# Altium integrated library IC.IntLib: 19 symbols
Pins are listed as number, name and electrical type; pins without a type are passive.

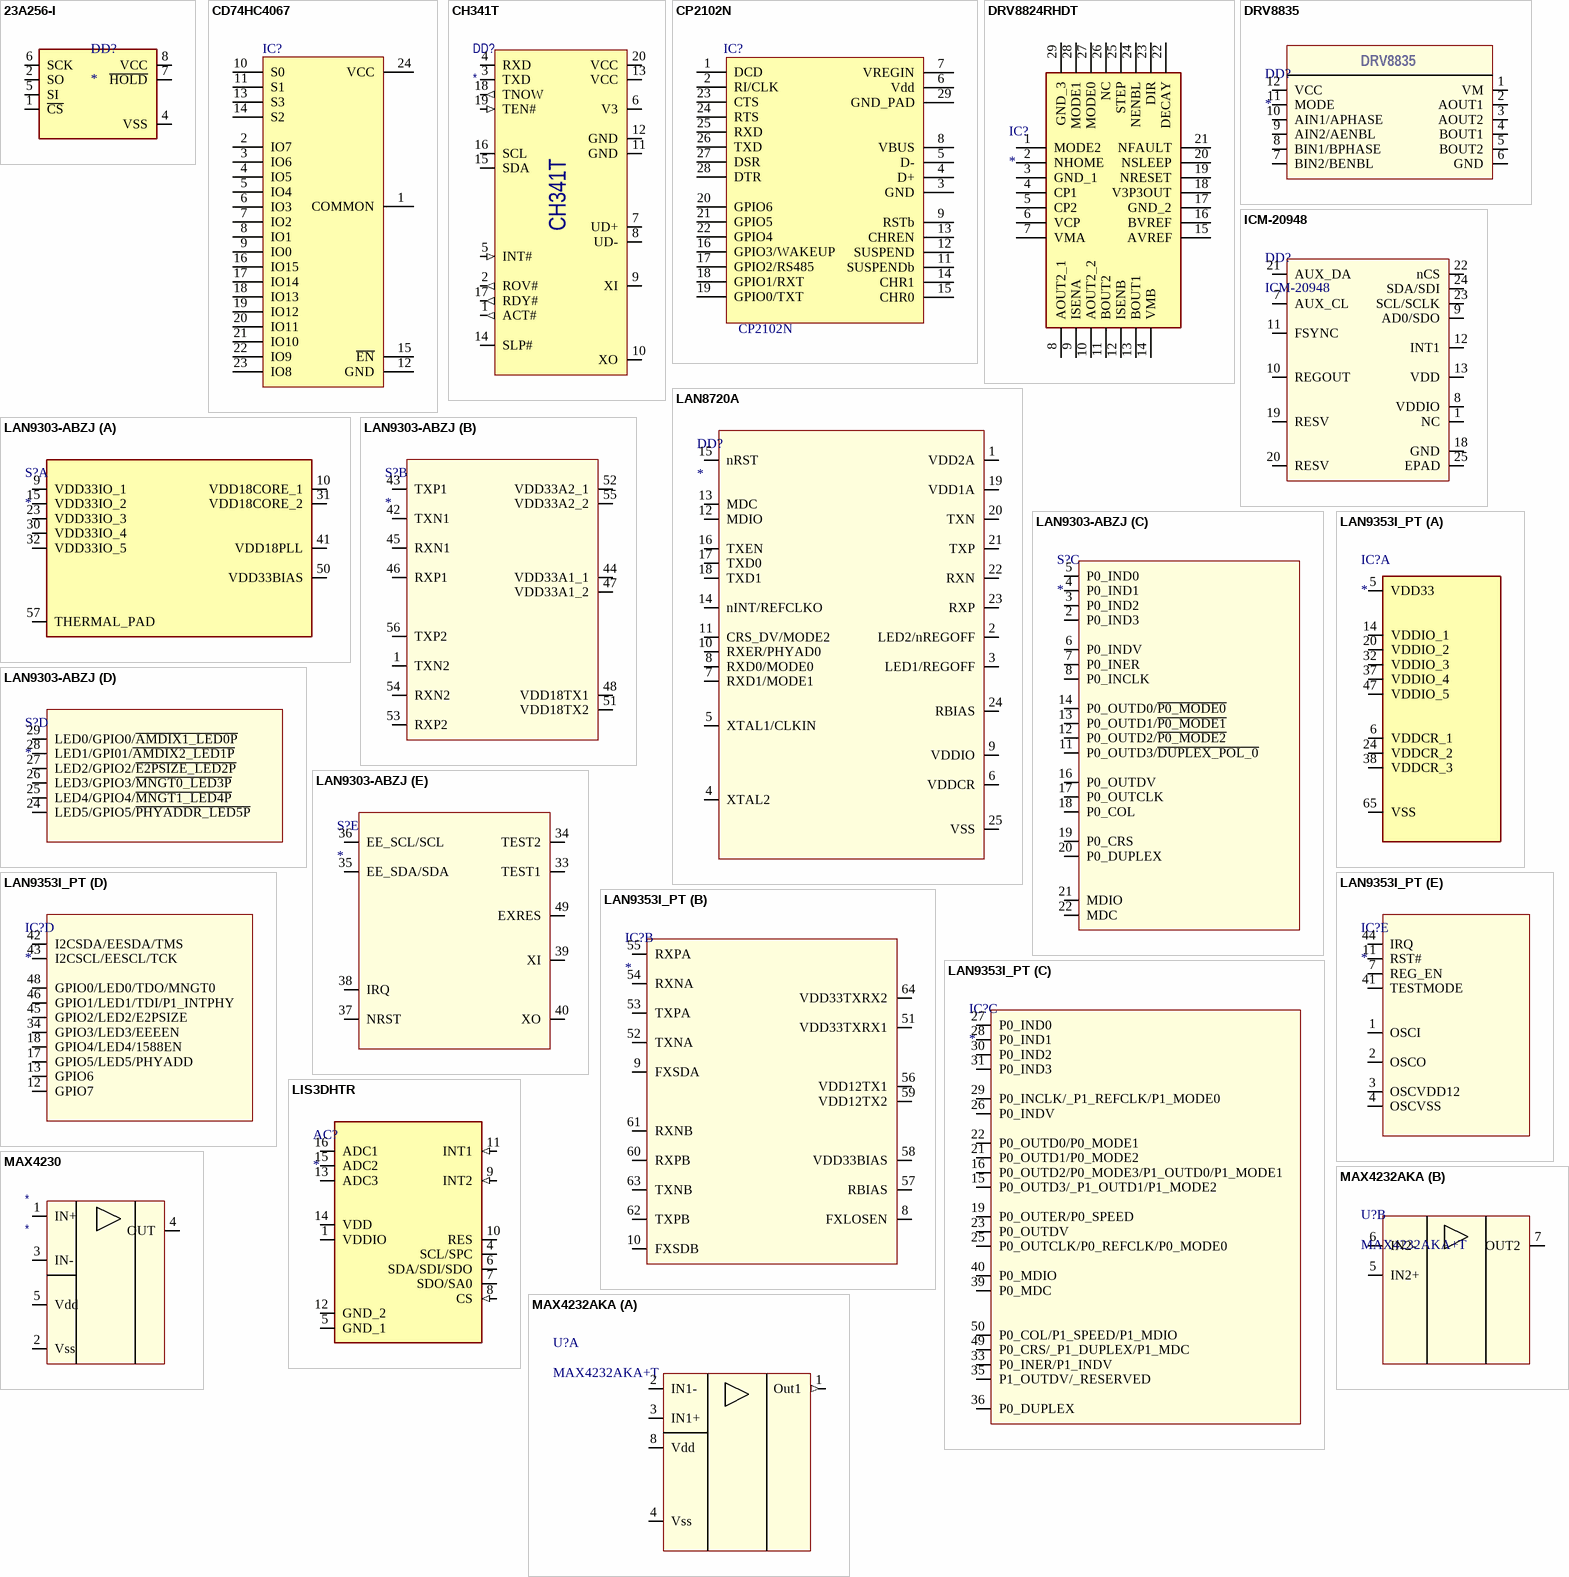
[diagram p0: symbols 23A256-I to MAX4232AKA]

## 23A256-I
designator DD?
Integrated Circuit; Manufacturer_Name: Microchip; Manufacturer_Part_Number: 23A256-I/SN; Datasheet Link: http://ww1.microchip.com/downloads/en/DeviceDoc/22100F.pdf; Height: 1.75mm; Mouser Part Number: 579-23A256-I/SN; Mouser Price/Stock: https://www.mouser.com/Search/Refine.aspx?Keyword=579-23A256-I%2FSN; Arrow Part Number: 23A256-I/SN; Arrow Price/Stock: https://www.arrow.com/en/products/23a256-isn/microchip-technology
footprint SOIC127P600X175-8N
footprint TSOP65P640X120-8N (TSOP, 8-Leads, Body 3,00x4,40mm, Pitch 0,65mm, IPC Medium Density)
pins: 1 ~{CS}, 2 SO, 4 VSS (power), 5 SI, 6 SCK, 7 ~{HOLD}, 8 VCC (power)

## CD74HC4067
designator IC?
footprint SOIC127P1030X265-24N (SOIC, 24-Leads, Body 15,40x7,40mm, Pitch 1,27mm, IPC Medium Density)
footprint SOP65P780X200-24N (SOP, 24-Leads, Body 8,20x5,30mm, Pitch 0,65mm, IPC Medium Density)
pins: 1 COMMON, 2 IO7, 3 IO6, 4 IO5, 5 IO4, 6 IO3, 7 IO2, 8 IO1, 9 IO0, 10 S0, 11 S1, 12 GND, 13 S3, 14 S2, 15 ~{EN}, 16 IO15, 17 IO14, 18 IO13, 19 IO12, 20 IO11, 21 IO10, 22 IO9, 23 IO8, 24 VCC

## CH341T
designator DD?
USB bus convert UART/I2C; Model: *; Manufacturer: *; HelpURL: *; Package: *; Value: *
footprint SSOP-20 209mil (SOP, 20-Leads, Body 7,20x5,30mm, Pitch 0,65mm, IPC Medium Density)
pins: 1 ACT# (out), 2 ROV# (out), 3 TXD, 4 RXD, 5 INT# (in), 6 V3 (power), 7 UD+, 8 UD-, 9 XI, 10 XO, 11 GND (power), 12 GND (power), 13 VCC (power), 14 SLP# (hiz), 15 SDA (oc), 16 SCL (oc), 17 RDY# (out), 18 TNOW (out), 19 TEN# (in), 20 VCC (power)

## CP2102N
designator IC?
USB-to-UART brige
footprint QFN28-5X5 (QFN, 28-Leads, Body 5,00x5,00mm, Pitch 0,50mm, Thermal Pad 3,03x3,13mm, IPC Medium Density)
pins: 1 DCD, 2 RI/CLK, 3 GND, 4 D+, 5 D-, 6 Vdd, 7 VREGIN, 8 VBUS, 9 RSTb, 11 SUSPENDb, 12 SUSPEND, 13 CHREN, 14 CHR1, 15 CHR0, 16 GPIO3/WAKEUP, 17 GPIO2/RS485, 18 GPIO1/RXT, 19 GPIO0/TXT, 20 GPIO6, 21 GPIO5, 22 GPIO4, 23 CTS, 24 RTS, 25 RXD, 26 TXD, 27 DSR, 28 DTR, 29 GND_PAD

## DRV8824RHDT
designator IC?
Integrated Circuit; Manufacturer_Name: Texas Instruments; Manufacturer_Part_Number: DRV8824RHDT; Datasheet Link: http://www.ti.com/lit/gpn/drv8824; Height: 1mm; Mouser Part Number: 595-DRV8824RHDT; Mouser Price/Stock: https://www.mouser.co.uk/ProductDetail/Texas-Instruments/DRV8824RHDT?qs=biyDIajrTn4uN60jUrCUCg%3D%3D; Arrow Part Number: DRV8824RHDT; Arrow Price/Stock: https://www.arrow.com/en/products/drv8824rhdt/texas-instruments
footprint QFN50P500X500X100-29N-D
pins: 1 MODE2, 2 NHOME, 3 GND_1, 4 CP1, 5 CP2, 6 VCP, 7 VMA, 8 AOUT2_1, 9 ISENA, 10 AOUT2_2, 11 BOUT2, 12 ISENB, 13 BOUT1, 14 VMB, 15 AVREF, 16 BVREF, 17 GND_2, 18 V3P3OUT, 19 NRESET, 20 NSLEEP, 21 NFAULT, 22 DECAY, 23 DIR, 24 NENBL, 25 STEP, 26 NC, 27 MODE0, 28 MODE1, 29 GND_3

## DRV8835
designator DD?
Dual-H-Bridge Motor Driver
footprint SON50P200X80_HS-13N (SON, 12-Leads, Body 3,00x2,00mm, Pitch 0,50mm, Thermal Pad 2,00x0,79mm, IPC Medium Density)
pins: 1 VM, 2 AOUT1, 3 AOUT2, 4 BOUT1, 5 BOUT2, 6 GND, 7 BIN2/BENBL, 8 BIN1/BPHASE, 9 AIN2/AENBL, 10 AIN1/APHASE, 11 MODE, 12 VCC

## ICM-20948
designator DD?
9-Axis MEMS MotionTracking Device; Model: ICM-20948; Manufacturer: *; HelpURL: *; Package: *; Value: *
footprint QFN40P300X300X105_HS-25N (QFN, 24-Leads, Body 3,00x3,00mm, Pitch 0,40mm, Thermal Pad 1,70x1,54mm, IPC Medium Density)
pins: 1 NC, 7 AUX_CL, 8 VDDIO, 9 AD0/SDO, 10 REGOUT, 11 FSYNC, 12 INT1, 13 VDD, 18 GND, 19 RESV, 20 RESV, 21 AUX_DA, 22 nCS, 23 SCL/SCLK, 24 SDA/SDI, 25 EPAD

## LAN8720A
designator DD?
RMII 10/100 Ethernet Transceiver; Model: *; Manufacturer: *; HelpURL: *; Package: *; Value: *
footprint QFN24-6X6_MC_MCH
pins: 1 VDD2A, 2 LED2/nREGOFF, 3 LED1/REGOFF, 4 XTAL2, 5 XTAL1/CLKIN, 6 VDDCR, 7 RXD1/MODE1, 8 RXD0/MODE0, 9 VDDIO, 10 RXER/PHYAD0, 11 CRS_DV/MODE2, 12 MDIO, 13 MDC, 14 nINT/REFCLKO, 15 nRST, 16 TXEN, 17 TXD0, 18 TXD1, 19 VDD1A, 20 TXN, 21 TXP, 22 RXN, 23 RXP, 24 RBIAS, 25 VSS

## LAN9303-ABZJ
designator S?
Switch; Manufacturer_Name: Microchip; Manufacturer_Part_Number: LAN9303-ABZJ; Datasheet Link: http://ww1.microchip.com/downloads/en/DeviceDoc/9303.pdf; Height: 1mm; Mouser Part Number: 886-LAN9303-ABZJ; Mouser Price/Stock: https://www.mouser.co.uk/ProductDetail/Microchip-Technology/LAN9303-ABZJ?qs=pA5MXup5wxF9z5SkD3kyrQ%3D%3D; Arrow Part Number: LAN9303-ABZJ; Arrow Price/Stock: https://www.arrow.com/en/products/lan9303-abzj/microchip-technology
footprint QFN50P800X800X100-57N-D
part A pins: 9 VDD33IO_1, 10 VDD18CORE_1, 15 VDD33IO_2, 23 VDD33IO_3, 30 VDD33IO_4, 31 VDD18CORE_2, 32 VDD33IO_5, 41 VDD18PLL, 50 VDD33BIAS, 57 THERMAL_PAD
part B pins: 1 TXN2, 42 TXN1, 43 TXP1, 44 VDD33A1_1, 45 RXN1, 46 RXP1, 47 VDD33A1_2, 48 VDD18TX1, 51 VDD18TX2, 52 VDD33A2_1, 53 RXP2, 54 RXN2, 55 VDD33A2_2, 56 TXP2
part C pins: 2 P0_IND3, 3 P0_IND2, 4 P0_IND1, 5 P0_IND0, 6 P0_INDV, 7 P0_INER, 8 P0_INCLK, 11 P0_OUTD3/~{DUPLEX_POL_0}, 12 P0_OUTD2/~{P0_MODE2}, 13 P0_OUTD1/~{P0_MODE1}, 14 P0_OUTD0/~{P0_MODE0}, 16 P0_OUTDV, 17 P0_OUTCLK, 18 P0_COL, 19 P0_CRS, 20 P0_DUPLEX, 21 MDIO, 22 MDC
part D pins: 24 LED5/GPIO5/~{PHYADDR_LED5P}, 25 LED4/GPIO4/~{MNGT1_LED4P}, 26 LED3/GPIO3/~{MNGT0_LED3P}, 27 LED2/GPIO2/~{E2PSIZE_LED2P}, 28 LED1/GPI01/~{AMDIX2_LED1P}, 29 LED0/GPIO0/~{AMDIX1_LED0P}
part E pins: 33 TEST1, 34 TEST2, 35 EE_SDA/SDA, 36 EE_SCL/SCL, 37 NRST, 38 IRQ, 39 XI, 40 XO, 49 EXRES

## LAN9353I_PT
designator IC?
Integrated Circuit; Manufacturer_Name: Microchip; Manufacturer_Part_Number: LAN9353I/PT; Datasheet Link: http://uk.rs-online.com/web/p/products/1115723; Height: 1.2mm; Mouser Part Number: 579-LAN9353I/PT; Mouser Price/Stock: https://www.mouser.co.uk/ProductDetail/Microchip-Technology/LAN9353I-PT?qs=%252ByRm1sYhYIngRb9FyNSUGA%3D%3D; Arrow Part Number: LAN9353I/PT; Arrow Price/Stock: https://www.arrow.com/en/products/lan9353ipt/microchip-technology
footprint QFP50P1200X1200X120-65N
part A pins: 5 VDD33, 6 VDDCR_1, 14 VDDIO_1, 20 VDDIO_2, 24 VDDCR_2, 32 VDDIO_3, 37 VDDIO_4, 38 VDDCR_3, 47 VDDIO_5, 65 VSS
part B pins: 8 FXLOSEN, 9 FXSDA, 10 FXSDB, 51 VDD33TXRX1, 52 TXNA, 53 TXPA, 54 RXNA, 55 RXPA, 56 VDD12TX1, 57 RBIAS, 58 VDD33BIAS, 59 VDD12TX2, 60 RXPB, 61 RXNB, 62 TXPB, 63 TXNB, 64 VDD33TXRX2
part C pins: 15 P0_OUTD3/_P1_OUTD1/P1_MODE2, 16 P0_OUTD2/P0_MODE3/P1_OUTD0/P1_MODE1, 19 P0_OUTER/P0_SPEED, 21 P0_OUTD1/P0_MODE2, 22 P0_OUTD0/P0_MODE1, 23 P0_OUTDV, 25 P0_OUTCLK/P0_REFCLK/P0_MODE0, 26 P0_INDV, 27 P0_IND0, 28 P0_IND1, 29 P0_INCLK/_P1_REFCLK/P1_MODE0, 30 P0_IND2, 31 P0_IND3, 33 P0_INER/P1_INDV, 35 P1_OUTDV/_RESERVED, 36 P0_DUPLEX, 39 P0_MDC, 40 P0_MDIO, 49 P0_CRS/_P1_DUPLEX/P1_MDC, 50 P0_COL/P1_SPEED/P1_MDIO
part D pins: 12 GPIO7, 13 GPIO6, 17 GPIO5/LED5/PHYADD, 18 GPIO4/LED4/1588EN, 34 GPIO3/LED3/EEEEN, 42 I2CSDA/EESDA/TMS, 43 I2CSCL/EESCL/TCK, 45 GPIO2/LED2/E2PSIZE, 46 GPIO1/LED1/TDI/P1_INTPHY, 48 GPIO0/LED0/TDO/MNGT0
part E pins: 1 OSCI, 2 OSCO, 3 OSCVDD12, 4 OSCVSS, 7 REG_EN, 11 RST#, 41 TESTMODE, 44 IRQ

## LIS3DHTR
designator AC?
Accelerometer; Manufacturer_Name: STMicroelectronics; Manufacturer_Part_Number: LIS3DHTR; Datasheet Link: http://www.st.com/content/ccc/resource/technical/document/datasheet/3c/ae/50/85/d6/b1/46/fe/CD00274221.pdf/files/CD00274221.pdf/jcr:content/translations/en.CD00274221.pdf; Height: 1mm; Mouser Part Number: 511-LIS3DHTR; Mouser Price/Stock: https://www.mouser.co.uk/ProductDetail/STMicroelectronics/LIS3DHTR?qs=6la6oa3D8xzhXYax3cEo4w%3D%3D; Arrow Part Number: LIS3DHTR; Arrow Price/Stock: https://www.arrow.com/en/products/lis3dhtr/stmicroelectronics
footprint LIS3DHTR
pins: 1 VDDIO (power), 4 SCL/SPC, 5 GND_1 (power), 6 SDA/SDI/SDO, 7 SDO/SA0, 8 CS (in), 9 INT2 (in), 10 RES, 11 INT1 (in), 12 GND_2 (power), 13 ADC3, 14 VDD (power), 15 ADC2, 16 ADC1

## MAX4230
designator *
footprint 21-0057F_MXM
footprint 21-0057F_MXM-L
footprint 21-0057F_MXM-M
pins: 1 IN+, 2 Vss, 3 IN-, 4 OUT, 5 Vdd

## MAX4232AKA
designator U?, comment MAX4232AKA+T
High-Output-Drive, Rail-to-Rail I/O Op Amps with Shutdown, 10 MHz, 10 V/us, 2.7 to 5.5 V, -40 to 125 degC, 8-Pin SOP (K8+5), RoHS, Tape and Reel; Manufacturer: Maxim; Voltage Gain@RL: 100 kohm=100 dB Typ.; RIN: 1000 MOhm Typ.; Slew Rate: 10 V/us Typ.; Gain Bandwidth: 10 MHz Typ.; PackageVersion: Rev. J; ComponentLink1Description: Manufacturer URL; DatasheetVersion: Rev. 18; Mounting Technology: Surface Mount; ComponentLink3URL: http://pdfserv.maximintegrated.com/package_dwgs/21-0078.PDF; ComponentLink3Description: Package Specification; ComponentLink1URL: http://www.maximintegrated.com/en.html; Packing: Tape and Reel; VDD: 2.7 to 5.5 V; Temperature Range: -40 to 125 degC; ComponentLink2Description: Datasheet; PartNumber: MAX4232AKA+T; PackageDescription: 8-Pin Small Outline Package, Body 2.9 x 1.625 mm, Pitch 0.65 mm; ComponentLink2URL: http://datasheets.maximintegrated.com/en/ds/MAX4230-MAX4234.pdf; RoHS: TRUE
footprint 21-0078H_MXM
footprint 21-0078H_MXM-L
footprint 21-0078H_MXM-M
part A pins: 1 Out1 (out) "Amplifier 1 Output", 2 IN1- "Inverting Input to Amplifier 1", 3 IN1+ "Noninverting Input to Amplifier 1", 4 Vss (power), 8 Vdd (power)
part B pins: 5 IN2+ "Noninverting Input to Amplifier 2", 6 IN2- "Inverting Input to Amplifier 2", 7 OUT2 "Amplifier 2 Output"

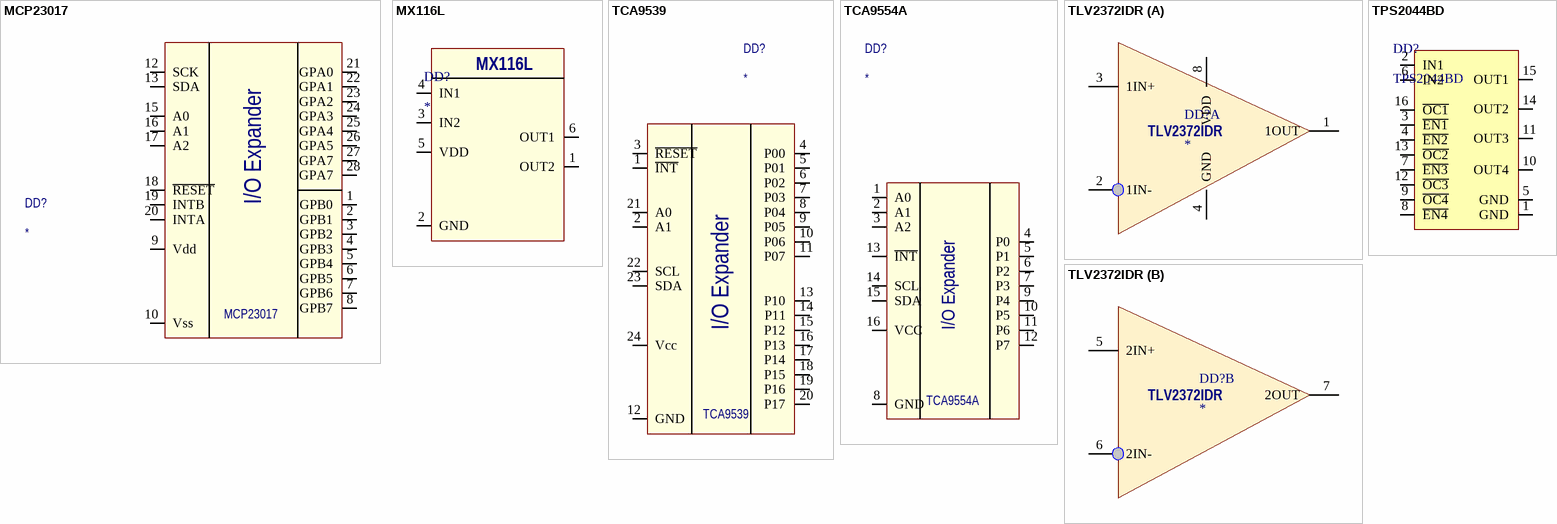
[diagram p1: symbols MCP23017 to TPS2044BD]

## MCP23017
designator DD?
16-Bit I/O Expander with Serial Interface
pins: 1 GPB0, 2 GPB1, 3 GPB2, 4 GPB3, 5 GPB4, 6 GPB5, 7 GPB6, 8 GPB7, 9 Vdd, 10 Vss, 12 SCK, 13 SDA, 15 A0, 16 A1, 17 A2, 18 ~{RESET}, 19 INTB, 20 INTA, 21 GPA0, 22 GPA1, 23 GPA2, 24 GPA3, 25 GPA4, 26 GPA5, 27 GPA7, 28 GPA7
text: I/O Expander

## MX116L
designator DD?
Reversible motor driver
footprint SOT95P280X145-6N (SOT23, 6-Leads, Body 2,90x2,80mm, Pitch 0,95mm, IPC Medium Density)
pins: 1 OUT2, 2 GND, 3 IN2, 4 IN1, 5 VDD, 6 OUT1

## TCA9539
designator DD?
Low Voltage 16-Bit I2C and SMBus Low-Power I/O Expander
footprint TSOP65P640X120-24N (TSOP, 24-Leads, Body 7,80x4,40mm, Pitch 0,65mm, IPC Medium Density)
pins: 1 ~{INT}, 2 A1, 3 ~{RESET}, 4 P00, 5 P01, 6 P02, 7 P03, 8 P04, 9 P05, 10 P06, 11 P07, 12 GND, 13 P10, 14 P11, 15 P12, 16 P13, 17 P14, 18 P15, 19 P16, 20 P17, 21 A0, 22 SCL, 23 SDA, 24 Vcc
text: I/O Expander

## TCA9554A
designator DD?
Low Voltage 8-Bit I2C and SMBus Low-Power I/O Expander
footprint SOP64P600X175-16N (SOP, 16-Leads, Body 4,91x3,90mm, Pitch 0,64mm, IPC Medium Density)
pins: 1 A0, 2 A1, 3 A2, 4 P0, 5 P1, 6 P2, 7 P3, 8 GND, 9 P4, 10 P5, 11 P6, 12 P7, 13 ~{INT}, 14 SCL, 15 SDA, 16 VCC
text: I/O Expander

## TLV2372IDR
designator DD?
DualOpAmp
footprint SOIC8 BAD WARNING (SOIC, 8-Leads, Body 6,00x5,00mm, Pitch 1,27mm, IPC Medium Density)
part A pins: 1 1OUT, 2 1IN-, 3 1IN+, 4 GND, 8 VDD
part B pins: 5 2IN+, 6 2IN-, 7 2OUT

## TPS2044BD
designator DD?
4-ch, fixed current limit, power switch; Power Load Switch Type: Quad High Side; Voltage, Input Max: 5.5V; Rds On: 70mohm; On/Enable Input Polarirty: Active Low; Supply Voltage: 2.7-5.5V; T: -40°C to +85°C; Production: Texas Instruments
footprint SOIC127P600X175-16N (SOIC, 16-Leads, Body 10,15x3,90mm, Pitch 1,27mm, IPC Medium Density)
pins: 1 GND, 2 IN1, 3 ~{EN1}, 4 ~{EN2}, 5 GND, 6 IN2, 7 ~{EN3}, 8 ~{EN4}, 9 ~{OC4}, 10 OUT4, 11 OUT3, 12 ~{OC3}, 13 ~{OC2}, 14 OUT2, 15 OUT1, 16 ~{OC1}